# Altium integrated library 0402B223K500NT.IntLib: 1 symbol
Pins are listed as number, name and electrical type; pins without a type are passive.

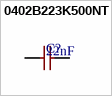
[diagram p0: symbol 0402B223K500NT]

## 0402B223K500NT
designator C?  value 22nF  (hidden comment: 0402B223K500NT)
Multilayer Ceramic Capacitors MLCC - SMD/SMT. 22nF 50V X7R +/-10% 0402 Multilayer Ceramic Capacitors MLCC - SMD/SMT ROHS; Manufacturer: FH (Guangdong Fenghua Advanced Tech); Component Type: Capacitors; Design Item ID: 0402B223K500NT; JLCPCB Part #: C1532; Manufacturer Part Number: 0402B223K500NT
footprint 0402B223K500NT (C0402)
pins: 1, 2